# EAGLE library part LT3503EDCBTRMPBF (library MF_IC_Power)
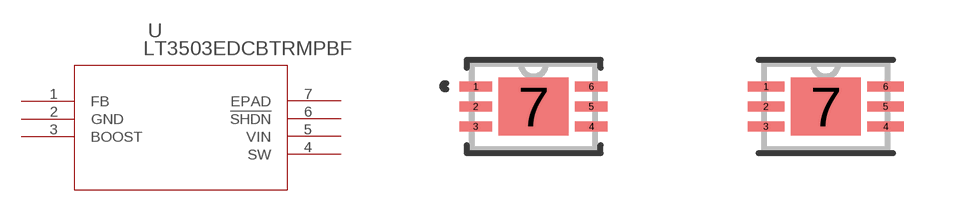
[diagram p5: symbol with the pads of DFN-6_DCB_LIT; footprints DFN-6_DCB_LIT, DFN-6_DCB_LIT-M]

Designator prefix U

## LT3503EDCBTRMPBF (COPYRIGHT: Copyright (C) 2025 Ultra Librarian. All rights reserved.; MANUFACTURER_PART_NUMBER: LT3503EDCB#TRMPBF; MFR_NAME: Analog Devices Inc)  [DFN-6_DCB_LIT]
1  FB  out
2  GND  pwr
3  BOOST  in
4  SW  out
5  VIN  in
6  !SHDN  pas
7  EPAD  pas

## LT3503EDCBTRMPBFDFN-6_DCB_LIT-M (COPYRIGHT: Copyright (C) 2025 Ultra Librarian. All rights reserved.; MANUFACTURER_PART_NUMBER: LT3503EDCB#TRMPBF; MFR_NAME: Analog Devices Inc)  [DFN-6_DCB_LIT-M]
Pads as for DFN-6_DCB_LIT

## LT3503EDCBTRMPBFDFN-6_DCB_LIT-L (COPYRIGHT: Copyright (C) 2025 Ultra Librarian. All rights reserved.; MANUFACTURER_PART_NUMBER: LT3503EDCB#TRMPBF; MFR_NAME: Analog Devices Inc)  [DFN-6_DCB_LIT-L]
Pads as for DFN-6_DCB_LIT

## Footprint DFN-6_DCB_LIT (pad centres in mm)
smd 0.813 x 0.254: 1 -1.448,0.5; 2 -1.448,0; 3 -1.448,-0.5; 4 1.448,-0.5; 5 1.448,0; 6 1.448,0.5
smd 1.753 x 1.448: 7 0,0

## Footprint DFN-6_DCB_LIT-M (pad centres in mm)
smd 0.914 x 0.254: 1 -1.499,0.5; 2 -1.499,0; 3 -1.499,-0.5; 4 1.499,-0.5; 5 1.499,0; 6 1.499,0.5
smd 1.753 x 1.448: 7 0,0

## Footprint DFN-6_DCB_LIT-L (pad centres in mm)
smd 0.711 x 0.254: 1 -1.397,0.5; 2 -1.397,0; 3 -1.397,-0.5; 4 1.397,-0.5; 5 1.397,0; 6 1.397,0.5
smd 1.753 x 1.448: 7 0,0